# Altium footprint library XTD Module.PcbLib: 62 footprints (part 4 of 4)
Each footprint in its own frame and in the unit in brackets; x right, y up, seen from the top. Pads: shape width x height; smd on the part's side, far side on the other; paste and mask are expansions set on the pad; w line width, h text height; cw(c..) or ccw(c..) is an arc to the next point about the centre after c.
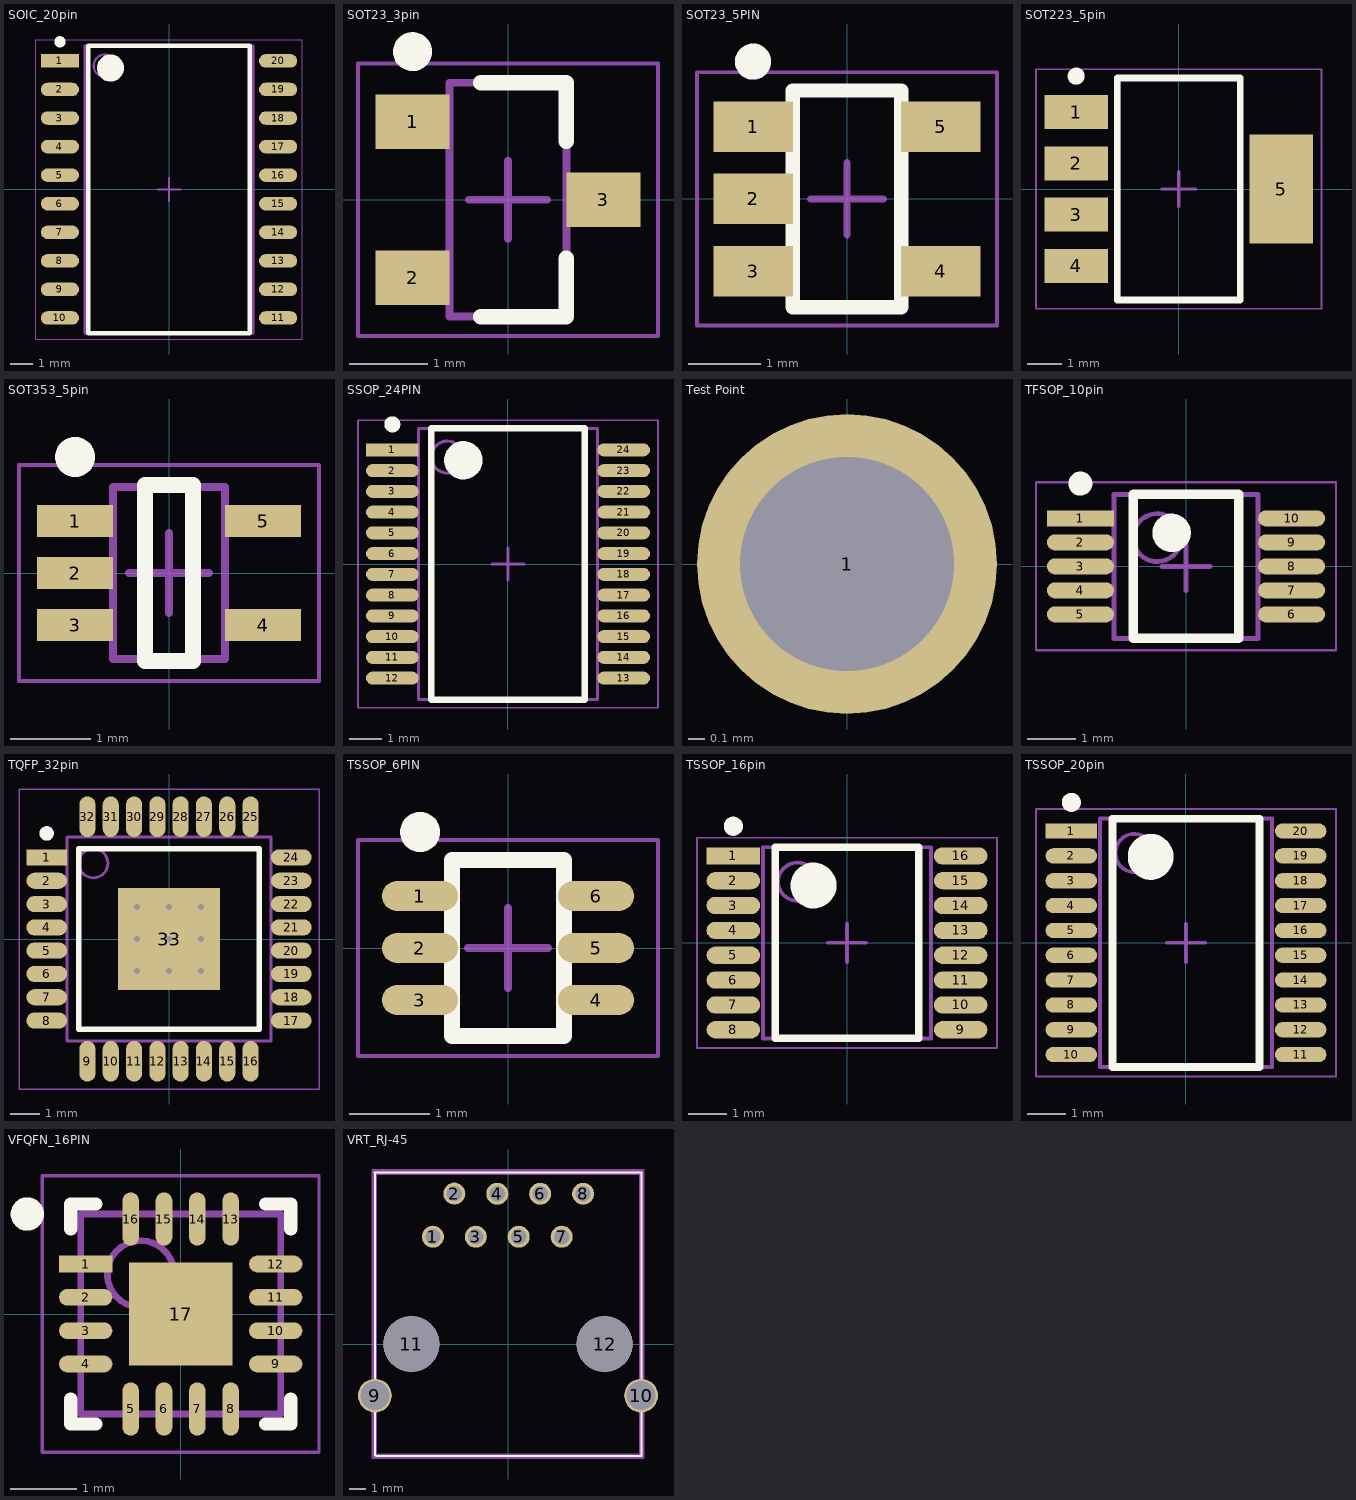
[diagram p3: the footprints below, top view; thin cyan lines are the x and y axes]

## SOIC_20pin [mm] "SOIC, 20-Leads, Body 12.80x7.50mm, Pitch 1.27mm, IPC Medium Density"
height 2.5
pads (20):
  rect 1.7x0.6 smd: 1(-4.85,5.715)
  oval 1.7x0.6 smd: 2(-4.85,4.445) 3(-4.85,3.175) 4(-4.85,1.905) 5(-4.85,0.635) 6(-4.85,-0.635) 7(-4.85,-1.905) 8(-4.85,-3.175) 9(-4.85,-4.445) 10(-4.85,-5.715) 11(4.85,-5.715) 12(4.85,-4.445) 13(4.85,-3.175) 14(4.85,-1.905) 15(4.85,-0.635) 16(4.85,0.635) 17(4.85,1.905) 18(4.85,3.175) 19(4.85,4.445) 20(4.85,5.715)
Top Overlay:
  circle w0.25: c-4.85,6.565 r0.125
  circle w0.6: c-2.6,5.4 r0.3
  lines w0.2: -3.6,-6.4 -3.6,6.4 3.6,6.4 3.6,-6.4 -3.6,-6.4
Mechanical 13:
  circle w0.1: c-2.85,5.5 r0.5
  lines w0.1: -3.75,-6.4 -3.75,6.4 3.75,6.4 3.75,-6.4 -3.75,-6.4
Mechanical 15:
  lines w0.05: -5.925,-6.65 -5.925,6.65 5.925,6.65 5.925,-6.65 -5.925,-6.65
  lines w0.1: -0.5,0 0.5,0 ; 0,-0.5 0,0.5
3D body: height 2.5, standoff 0.2, extent -3.75,-6.4 3.75,6.4

## SOT23_3pin [mm] "SOT23, 3-Leads, Body 3.00x2.50mm, Pitch 1.00mm, IPC Medium Density"
height 1
pads (3):
  rect 0.95x0.7 smd: 1(-1.225,1) 2(-1.225,-1) 3(1.225,0)
Top Overlay:
  circle w0.25: c-1.225,1.9 r0.125
  lines w0.2: -0.35,-1.5 0.75,-1.5 0.75,-0.75 ; -0.35,1.5 0.75,1.5 0.75,0.75
Mechanical 13:
  lines w0.1: -0.75,-1.5 0.75,-1.5 0.75,1.5 -0.75,1.5 -0.75,-1.5
Mechanical 15:
  lines w0.05: -1.925,-1.75 1.925,-1.75 1.925,1.75 -1.925,1.75 -1.925,-1.75
  lines w0.1: -0.5,0 0.5,0 ; 0,-0.5 0,0.5
3D body: height 1, standoff 0.1, extent -0.75,-1.5 0.75,1.5

## SOT23_5PIN [mm] "SOT23, 5-Leads, Body 3.00x2.80mm, Pitch 1.00mm, IPC Medium Density"
height 1
pads (5):
  rect 1.1x0.7 smd: 1(-1.3,1) 2(-1.3,0) 3(-1.3,-1) 4(1.3,-1) 5(1.3,1)
Top Overlay:
  circle w0.25: c-1.3,1.9 r0.125
  lines w0.2: -0.75,-1.5 -0.75,1.5 0.75,1.5 0.75,-1.5 -0.75,-1.5
Mechanical 13:
  lines w0.1: -0.75,-1.5 0.75,-1.5 0.75,1.5 -0.75,1.5 -0.75,-1.5
Mechanical 15:
  lines w0.05: -2.075,-1.75 2.075,-1.75 2.075,1.75 -2.075,1.75 -2.075,-1.75
  lines w0.1: -0.5,0 0.5,0 ; 0,-0.5 0,0.5
3D body: height 1, standoff 0.1, extent -0.75,-1.5 0.75,1.5

## SOT223_5pin [mm] "SOT223, 5-Leads, Body 6.50x7.00mm (avg), Pitch 1.50mm, IPC Medium Density"
height 1.6
pads (5):
  rect 1.85x1 smd: 1(-3,2.25) 2(-3,0.75) 3(-3,-0.75) 4(-3,-2.25)
  rect 1.85x3.2 smd: 5(3,0)
Top Overlay:
  circle w0.25: c-3,3.3 r0.125
  lines w0.2: -1.8,-3.25 1.8,-3.25 1.8,3.25 -1.8,3.25 -1.8,-3.25
Mechanical 13:
  lines w0.1: -1.75,-3.25 1.75,-3.25 1.75,3.25 -1.75,3.25 -1.75,-3.25
Mechanical 15:
  lines w0.05: -4.175,-3.5 4.175,-3.5 4.175,3.5 -4.175,3.5 -4.175,-3.5
  lines w0.1: -0.5,0 0.5,0 ; 0,-0.5 0,0.5
3D body: height 1.6, standoff 0.02, extent -1.75,-3.25 1.75,3.25

## SOT353_5pin [mm] "SOT353, 5-Leads, Body 2.15x2.40mm, Pitch 0.65mm, IPC Medium Density"
height 1.1
pads (5):
  rect 0.95x0.4 smd: 1(-1.175,0.65) 2(-1.175,0) 3(-1.175,-0.65) 4(1.175,-0.65) 5(1.175,0.65)
Top Overlay:
  circle w0.25: c-1.175,1.45 r0.125
  lines w0.2: -0.3,-1.1 0.3,-1.1 0.3,1.1 -0.3,1.1 -0.3,-1.1
Mechanical 13:
  lines w0.1: -0.7,-1.075 -0.7,1.075 0.7,1.075 0.7,-1.075 -0.7,-1.075
Mechanical 15:
  lines w0.05: -1.875,-1.35 -1.875,1.35 1.875,1.35 1.875,-1.35 -1.875,-1.35
  lines w0.1: -0.5,0 0.5,0 ; 0,-0.5 0,0.5
3D body: height 1.1, standoff 0.1, extent -0.7,-1.075 0.7,1.075

## SSOP_24PIN [mm] "SOP, 24-Leads, Body 8.20x5.30mm, Pitch 0.65mm, IPC Medium Density"
height 2
pads (24):
  rect 1.65x0.406 smd: 1(-3.625,3.575)
  oval 1.65x0.406 smd: 2(-3.625,2.925) 3(-3.625,2.275) 4(-3.625,1.625) 5(-3.625,0.975) 6(-3.625,0.325) 7(-3.625,-0.325) 8(-3.625,-0.975) 9(-3.625,-1.625) 10(-3.625,-2.275) 11(-3.625,-2.925) 12(-3.625,-3.575) 13(3.625,-3.575) 14(3.625,-2.925) 15(3.625,-2.275) 16(3.625,-1.625) 17(3.625,-0.975) 18(3.625,-0.325) 19(3.625,0.325) 20(3.625,0.975) 21(3.625,1.625) 22(3.625,2.275) 23(3.625,2.925) 24(3.625,3.575)
Top Overlay:
  circle w0.6: c-1.4,3.25 r0.3
  circle w0.25: c-3.625,4.375 r0.125
  lines w0.2: -2.4,-4.25 2.4,-4.25 2.4,4.25 -2.4,4.25 -2.4,-4.25
Mechanical 13:
  circle w0.1: c-1.9,3.35 r0.5
  lines w0.1: -2.8,-4.25 2.8,-4.25 2.8,4.25 -2.8,4.25 -2.8,-4.25
Mechanical 15:
  lines w0.05: -4.7,-4.5 4.7,-4.5 4.7,4.5 -4.7,4.5 -4.7,-4.5
  lines w0.1: -0.5,0 0.5,0 ; 0,-0.5 0,0.5
3D body: height 2, standoff 0.05, extent -2.8,-4.25 2.8,4.25

## Test Point [mil] "TEST POINT PC MINI .040\"D BLACK"
height 180
pads (1):
  round 70 hole 50: 1(0,0)
3D body: height 180, standoff 0, extent -50,-50 50,50
3D body: height 0, standoff -120, extent -10,-5 10,5

## TFSOP_10pin [mm] "TSSOP, 10-Leads, Body 3.00x3.00mm, Pitch 0.50mm, IPC Medium Density"
height 1
pads (10):
  rect 1.4x0.33 smd mask+0.051: 1(-2.2,1)
  oval 1.4x0.33 smd mask+0.051: 2(-2.2,0.5) 3(-2.2,0) 4(-2.2,-0.5) 5(-2.2,-1) 6(2.2,-1) 7(2.2,-0.5) 8(2.2,0) 9(2.2,0.5) 10(2.2,1)
Top Overlay:
  circle w0.25: c-2.2,1.725 r0.125
  circle w0.4: c-0.3,0.7 r0.2
  lines w0.2: -1.1,-1.5 -1.1,1.5 1.1,1.5 1.1,-1.5 -1.1,-1.5
Mechanical 13:
  circle w0.1: c-0.6,0.6 r0.5
  lines w0.1: -1.5,-1.5 -1.5,1.5 1.5,1.5 1.5,-1.5 -1.5,-1.5
Mechanical 15:
  lines w0.05: -3.125,-1.75 -3.125,1.75 3.125,1.75 3.125,-1.75 -3.125,-1.75
  lines w0.1: -0.5,0 0.5,0 ; 0,-0.5 0,0.5
3D body: height 1, standoff 0.1, extent -1.5,-1.5 1.5,1.5

## TQFP_32pin [mm] "TQFP, 32-Leads, Body 7.00x7.00mm, Pitch 0.80mm, Thermal Pad 3.50x3.50mm, IPC Medium Density"
height 1.2
pads (33):
  rect 1.4x0.55 smd: 1(-4.2,2.8)
  oval 1.4x0.55 smd: 2(-4.2,2) 3(-4.2,1.2) 4(-4.2,0.4) 5(-4.2,-0.4) 6(-4.2,-1.2) 7(-4.2,-2) 8(-4.2,-2.8) 17(4.2,-2.8) 18(4.2,-2) 19(4.2,-1.2) 20(4.2,-0.4) 21(4.2,0.4) 22(4.2,1.2) 23(4.2,2) 24(4.2,2.8)
  oval 0.55x1.4 smd: 9(-2.8,-4.2) 10(-2,-4.2) 11(-1.2,-4.2) 12(-0.4,-4.2) 13(0.4,-4.2) 14(1.2,-4.2) 15(2,-4.2) 16(2.8,-4.2) 25(2.8,4.2) 26(2,4.2) 27(1.2,4.2) 28(0.4,4.2) 29(-0.4,4.2) 30(-1.2,4.2) 31(-2,4.2) 32(-2.8,4.2)
  rect 3.5x3.5 smd: 33(0,0)
via -1.1,1.1 diameter 0.5 hole 0.2
via 0,1.1 diameter 0.5 hole 0.2
via 1.1,1.1 diameter 0.5 hole 0.2
via -1.1,0 diameter 0.5 hole 0.2
via 0,0 diameter 0.5 hole 0.2
via 1.1,0 diameter 0.5 hole 0.2
via -1.1,-1.1 diameter 0.5 hole 0.2
via 0,-1.1 diameter 0.5 hole 0.2
via 1.1,-1.1 diameter 0.5 hole 0.2
Top Overlay:
  circle w0.25: c-4.2,3.625 r0.125
  lines w0.2: -3.1,-3.1 -3.1,3.1 3.1,3.1 3.1,-3.1 -3.1,-3.1
Mechanical 13:
  circle w0.1: c-2.6,2.6 r0.5
  lines w0.1: -3.5,-3.5 -3.5,3.5 3.5,3.5 3.5,-3.5 -3.5,-3.5
Mechanical 15:
  lines w0.05: -5.15,-5.15 -5.15,5.15 5.15,5.15 5.15,-5.15 -5.15,-5.15
  lines w0.1: -0.5,0 0.5,0 ; 0,-0.5 0,0.5
3D body: height 1.2, standoff 0.2, extent -3.5,-3.5 3.5,3.5

## TSSOP_6PIN [mm] "TSOP, 6-Leads, Body 2.15x1.40mm, Pitch 0.65mm, IPC Medium Density"
height 1.1
pads (6):
  oval 0.95x0.381 smd mask+0.076: 1(-1.1,0.65) 2(-1.1,0) 3(-1.1,-0.65) 4(1.1,-0.65) 5(1.1,0) 6(1.1,0.65)
Top Overlay:
  circle w0.25: c-1.1,1.45 r0.125
  lines w0.2: -0.7,-1.1 -0.7,1.1 0.7,1.1 0.7,-1.1 -0.7,-1.1
Mechanical 13:
  lines w0.1: -0.7,-1.1 -0.7,1.1 0.7,1.1 0.7,-1.1 -0.7,-1.1
Mechanical 15:
  lines w0.05: -1.875,-1.35 -1.875,1.35 1.875,1.35 1.875,-1.35 -1.875,-1.35
  lines w0.1: -0.5,0 0.5,0 ; 0,-0.5 0,0.5
3D body: height 1.1, standoff 0, extent -0.7,-1.1 0.7,1.1

## TSSOP_16pin [mm] "TSOP, 16-Leads, Body 5.00x4.40mm, Pitch 0.65mm, IPC Medium Density"
height 1
pads (16):
  rect 1.4x0.45 smd: 1(-2.975,2.275)
  oval 1.4x0.45 smd: 2(-2.975,1.625) 3(-2.975,0.975) 4(-2.975,0.325) 5(-2.975,-0.325) 6(-2.975,-0.975) 7(-2.975,-1.625) 8(-2.975,-2.275) 9(2.975,-2.275) 10(2.975,-1.625) 11(2.975,-0.975) 12(2.975,-0.325) 13(2.975,0.325) 14(2.975,0.975) 15(2.975,1.625) 16(2.975,2.275)
Top Overlay:
  circle w0.6: c-0.875,1.5 r0.3
  circle w0.25: c-2.975,3.05 r0.125
  lines w0.2: -1.875,-2.5 1.875,-2.5 1.875,2.5 -1.875,2.5 -1.875,-2.5
Mechanical 13:
  circle w0.1: c-1.3,1.6 r0.5
  lines w0.1: -2.2,-2.5 2.2,-2.5 2.2,2.5 -2.2,2.5 -2.2,-2.5
Mechanical 15:
  lines w0.05: -3.925,-2.75 3.925,-2.75 3.925,2.75 -3.925,2.75 -3.925,-2.75
  lines w0.1: -0.5,0 0.5,0 ; 0,-0.5 0,0.5
3D body: height 1, standoff 0.02, extent -2.2,-2.5 2.2,2.5

## TSSOP_20pin [mm] "TSOP, 20-Leads, Body 6.50x4.50mm, Pitch 0.65mm, IPC Medium Density"
height 1
pads (20):
  rect 1.35x0.4 smd: 1(-3,2.925)
  oval 1.35x0.4 smd: 2(-3,2.275) 3(-3,1.625) 4(-3,0.975) 5(-3,0.325) 6(-3,-0.325) 7(-3,-0.975) 8(-3,-1.625) 9(-3,-2.275) 10(-3,-2.925) 11(3,-2.925) 12(3,-2.275) 13(3,-1.625) 14(3,-0.975) 15(3,-0.325) 16(3,0.325) 17(3,0.975) 18(3,1.625) 19(3,2.275) 20(3,2.925)
Top Overlay:
  circle w0.25: c-3,3.675 r0.125
  circle w0.6: c-0.925,2.25 r0.3
  lines w0.2: -1.925,-3.25 -1.925,3.25 1.925,3.25 1.925,-3.25 -1.925,-3.25
Mechanical 13:
  circle w0.1: c-1.35,2.35 r0.5
  lines w0.1: -2.25,-3.25 -2.25,3.25 2.25,3.25 2.25,-3.25 -2.25,-3.25
Mechanical 15:
  lines w0.05: -3.925,-3.5 -3.925,3.5 3.925,3.5 3.925,-3.5 -3.925,-3.5
  lines w0.1: -0.5,0 0.5,0 ; 0,-0.5 0,0.5
3D body: height 1, standoff 0.1, extent -2.25,-3.25 2.25,3.25

## VFQFN_16PIN [mm] "QFN, 16-Leads, Body 3.00x3.00mm, Pitch 0.50mm, Thermal Pad 1.55x1.55mm, IPC Medium Density"
height 0.8
pads (17):
  rect 0.8x0.25 smd: 1(-1.425,0.75)
  oval 0.8x0.25 smd: 2(-1.425,0.25) 3(-1.425,-0.25) 4(-1.425,-0.75) 9(1.425,-0.75) 10(1.425,-0.25) 11(1.425,0.25) 12(1.425,0.75)
  oval 0.25x0.8 smd: 5(-0.75,-1.425) 6(-0.25,-1.425) 7(0.25,-1.425) 8(0.75,-1.425) 13(0.75,1.425) 14(0.25,1.425) 15(-0.25,1.425) 16(-0.75,1.425)
  rect 1.55x1.55 smd: 17(0,0)
Top Overlay:
  circle w0.25: c-2.3,1.5 r0.125
  lines w0.2: -1.65,-1.275 -1.65,-1.65 -1.275,-1.65 ; -1.65,1.275 -1.65,1.65 -1.275,1.65 ; 1.275,-1.65 1.65,-1.65 1.65,-1.275 ; 1.275,1.65 1.65,1.65 1.65,1.275
Mechanical 13:
  circle w0.1: c-0.6,0.6 r0.5
  lines w0.1: -1.5,-1.5 -1.5,1.5 1.5,1.5 1.5,-1.5 -1.5,-1.5
Mechanical 15:
  lines w0.05: -2.075,-2.075 -2.075,2.075 2.075,2.075 2.075,-2.075 -2.075,-2.075
  lines w0.1: -0.5,0 0.5,0 ; 0,-0.5 0,0.5
3D body: height 0.8, standoff 0.05, extent -1.5,-1.5 1.5,1.5

## VRT_RJ-45 [mm] "Signal_Virtal_RJ-45"
height 16
pads (12):
  round 1.3 hole 0.9: 1(-4.445,6.35) 2(-3.175,8.9) 3(-1.905,6.35) 4(-0.635,8.89) 5(0.635,6.35) 6(1.905,8.89) 7(3.175,6.35) 8(4.445,8.89)
  round 2 hole 1.7: 9(-7.875,-3.05) 10(7.875,-3.05)
  round 3.302 hole 3.302 unplated: 11(-5.715,0) 12(5.715,0)
Top Overlay:
  lines w0.127: -7.899,10.16 7.899,10.16 7.899,-6.629 -7.798,-6.629 -7.874,-6.553 -7.874,10.135 -7.899,10.16
Mechanical 13:
  lines w0.254: -7.875,-6.6 -7.875,10.135 7.875,10.135 7.875,-6.6 -7.8,-6.6
Mechanical 15:
  lines w0.127: -8.001,-6.731 8.001,-6.731 8.001,10.287 -8.001,10.287 -8.001,-6.731
3D body: height 16, standoff 0, extent -7.837,-6.55 7.838,10.15
3D body: height 3.5, standoff 0, extent -7.313,-1.599 -4.115,1.6
3D body: height 3.5, standoff 0, extent 4.117,-1.599 7.315,1.6
3D body: height 3.5, standoff 0, extent 7.025,-3.9 8.725,-2.2
3D body: height 3.2, standoff 0, extent -3.623,8.451 -2.725,9.35
3D body: height 3.2, standoff 0, extent -4.848,5.951 -3.95,6.85
3D body: height 3.2, standoff 0, extent -1.083,8.441 -0.185,9.34
3D body: height 3.2, standoff 0, extent -2.353,5.901 -1.455,6.8
3D body: height 3.2, standoff 0, extent 1.457,8.441 2.355,9.34
3D body: height 3.2, standoff 0, extent 0.187,5.901 1.085,6.8
3D body: height 3.2, standoff 0, extent 3.997,8.441 4.895,9.34
3D body: height 3.2, standoff 0, extent 2.727,5.901 3.625,6.8
3D body: height 3.5, standoff 0, extent -8.725,-3.9 -7.025,-2.2